# Altium footprint library WB_DIODE_TRANS.PcbLib: 5 footprints
Each footprint in its own frame and in the unit in brackets; x right, y up, seen from the top. Pads: shape width x height; smd on the part's side, far side on the other; paste and mask are expansions set on the pad; w line width, h text height; cw(c..) or ccw(c..) is an arc to the next point about the centre after c.
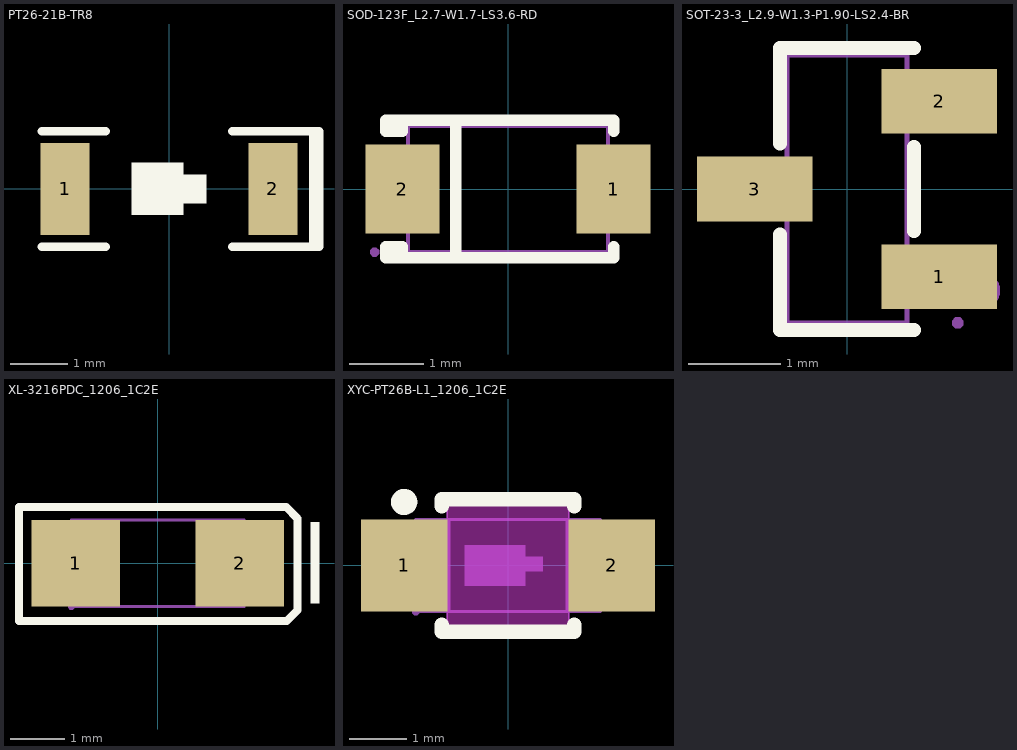
[diagram p0: the footprints below, top view; thin cyan lines are the x and y axes]

## PT26-21B-TR8 [mm]
pads (2):
  rect 0.85x1.6 smd: 1(-1.8,0) 2(1.8,0)
Top Overlay:
  region: -0.65,0.45 0.25,0.45 0.25,0.25 0.65,0.25 0.65,-0.25 0.25,-0.25 0.25,-0.45 -0.65,-0.45
  lines w0.152: -2.2,-1.002 -1.1,-1.002 ; -2.2,1 -1.1,1 ; 1.1,-1.002 2.2,-1.002 2.201,-1 2.5,-1 ; 1.1,1 2.2,1 2.5,1 ; 2.5,-1 2.5,1 ; 2.5,-1 2.6,-1 2.6,1 2.5,1
Mechanical 6:
  region: 2.05,0.25 1.95,0.35 1.75,0.35 1.65,0.35 1.55,0.25 1.55,-0.25 1.65,-0.35 1.95,-0.35 2.05,-0.25 2.05,-0.15 1.95,-0.15 1.95,-0.25 1.65,-0.25 1.65,0.25 1.95,0.25 1.95,0.15 2.05,0.15
  region: -1.6,-0.25 -1.6,-0.35 -2,-0.35 -2,0.35 -1.6,0.35 -1.6,0.25 -1.9,0.25 -1.9,0.05 -1.6,0.05 -1.6,-0.05 -1.9,-0.05 -1.9,-0.25

## SOD-123F_L2.7-W1.7-LS3.6-RD [mm]
pads (2):
  rect 1.001x1.199 smd mask+0.051: 1(1.425,0) 2(-1.425,0)
Top Overlay:
  lines w0.152: -1.542,-0.927 -1.542,-0.78 ; -1.542,0.78 -1.542,0.927 ; -0.706,-0.927 -0.706,0.927 ; 1.427,-0.78 1.427,-0.927 -1.425,-0.927 ; 1.427,0.78 1.427,0.927 -1.425,0.927 ; -1.425,-0.927 -1.651,-0.927 -1.651,-0.78 -1.425,-0.78 -1.425,-0.927 ; -1.425,0.927 -1.651,0.927 -1.651,0.78 -1.425,0.78 -1.425,0.927
Mechanical 6:
  region: 1.651,0.508 1.651,-0.508 1.397,-0.508 1.397,0.508
  region: 1.905,0.127 1.905,-0.076 1.09,-0.076 1.09,0.127
  region: -1.778,0.127 -1.778,-0.076 -0.963,-0.076 -0.963,0.127
Mechanical 15:
  region: -1.74,-0.851 -1.74,-0.826 -1.776,-0.79 -1.826,-0.79 -1.862,-0.826 -1.862,-0.851 -1.862,-0.876 -1.826,-0.912 -1.776,-0.912 -1.74,-0.876 -1.74,-0.851
  region: -1.801,0.45 -1.049,0.45 -1.049,-0.45 -1.801,-0.45
  region: 1.049,0.45 1.801,0.45 1.801,-0.45 1.049,-0.45
  lines w0.051: -1.349,-0.851 1.351,-0.851 1.351,0.851 -1.349,0.851 -1.349,-0.851

## SOT-23-3_L2.9-W1.3-P1.90-LS2.4-BR [mm]
pads (3):
  rect 1.25x0.7 smd paste+0 mask+0.051: 1(1,-0.95) 2(1,0.95) 3(-1,0)
Top Overlay:
  lines w0.152: -0.726,-0.495 -0.726,-1.526 0.726,-1.526 ; -0.726,0.495 -0.726,1.526 0.726,1.526 ; 0.726,-0.455 0.726,0.455
Mechanical 6:
  circle w0.2: c1.46,-1.1 r0.1
Mechanical 15:
  region: -1.2,-0.215 -1.2,0.215 -0.9,0.215 -0.9,-0.215
  region: -0.91,-0.215 -0.91,0.215 -0.64,0.215 -0.64,-0.215
  region: 0.9,-1.165 0.9,-0.735 1.2,-0.735 1.2,-1.165
  region: 0.64,-1.165 0.64,-0.735 0.91,-0.735 0.91,-1.165
  region: 0.9,0.735 0.9,1.165 1.2,1.165 1.2,0.735
  region: 0.64,0.735 0.64,1.165 0.91,1.165 0.91,0.735
  region: 1.26,-1.45 1.26,-1.425 1.225,-1.39 1.175,-1.39 1.14,-1.425 1.14,-1.45 1.14,-1.475 1.175,-1.51 1.225,-1.51 1.26,-1.475 1.26,-1.45
  lines w0.051: -0.65,-1.45 0.65,-1.45 0.65,1.45 -0.65,1.45 -0.65,-1.45

## XL-3216PDC_1206_1C2E [mm]
pads (2):
  rect 1.635x1.6 smd paste-100 mask+0.051: 1(-1.517,0) 2(1.517,0)
Top Overlay:
  region: 2.834,0.761 2.834,-0.741 2.986,-0.741 2.986,0.761
  lines w0.15: 2.379,1.039 -2.569,1.039 -2.569,-1.069 2.389,-1.069 2.59,-0.871 2.59,-0.79 2.59,0.83 2.38,1.04
Top Paste:
  region: -0.7,-0.7 -0.7,-0.329 -0.8,-0.229 -1.156,-0.229 -1.256,-0.129 -1.256,0.129 -1.156,0.229 -0.8,0.229 -0.7,0.329 -0.7,0.7 -0.8,0.8 -2.235,0.8 -2.335,0.7 -2.335,-0.7 -2.235,-0.8 -0.8,-0.8
  region: 0.7,0.7 0.7,0.329 0.8,0.229 1.156,0.229 1.256,0.129 1.256,-0.129 1.156,-0.229 0.8,-0.229 0.7,-0.329 0.7,-0.7 0.8,-0.8 2.235,-0.8 2.335,-0.7 2.335,0.7 2.235,0.8 0.8,0.8
Mechanical 6:
  region: -1.207,0.318 -1.334,0.445 -1.715,0.445 -1.842,0.318 -1.842,-0.318 -1.715,-0.445 -1.334,-0.445 -1.207,-0.318 -1.207,-0.191 -1.334,-0.191 -1.334,-0.318 -1.715,-0.318 -1.715,0.191 -1.715,0.318 -1.334,0.318 -1.334,0.191 -1.207,0.191
  region: 1.778,0.445 1.27,0.445 1.27,-0.445 1.778,-0.445 1.778,-0.318 1.397,-0.318 1.397,-0.064 1.778,-0.064 1.778,0.064 1.397,0.064 1.397,0.318 1.778,0.318
  region: -1.6,0.8 -0.965,0.8 -0.965,0.673 -1.6,0.673
  region: -1.6,-0.673 -0.965,-0.673 -0.965,-0.8 -1.6,-0.8
Mechanical 15:
  region: -1.54,-0.8 -1.54,-0.825 -1.575,-0.86 -1.625,-0.86 -1.66,-0.825 -1.66,-0.8 -1.66,-0.775 -1.625,-0.74 -1.575,-0.74 -1.54,-0.775 -1.54,-0.8
  region: 1.1,-0.7 1.1,0.7 1.6,0.7 1.6,-0.7
  region: -1.1,0.7 -1.1,-0.7 -1.6,-0.7 -1.6,0.7
  lines w0.051: -1.6,-0.8 1.6,-0.8 1.6,0.8 -1.6,0.8 -1.6,-0.8

## XYC-PT26B-L1_1206_1C2E [mm]
pads (2):
  rect 1.5x1.6 smd paste+0 mask+0.05: 1(-1.8,0) 2(1.8,0)
Top Overlay:
  circle w0.254: c-1.8,1.1 r0.1
  lines w0.254: -1.15,-1.031 -1.15,-1.15 1.15,-1.15 1.15,-1.031 ; -1.15,1.031 -1.15,1.15 1.15,1.15 1.15,1.031
Keep-Out Layer:
  board cut-out: -1.05,1.05 -1.05,-1.05 1.05,-1.05 1.05,1.05
Keep-Out Layer:
  region: -1.05,1.05 -1.05,-1.05 1.05,-1.05 1.05,1.05
  lines w0.025: -1.05,-1.05 1.05,-1.05 1.05,1.05 -1.05,1.05 -1.05,-1.05
Mechanical 1:
  lines w0.025: -1.05,-1.05 1.05,-1.05 1.05,1.05 -1.05,1.05 -1.05,-1.05
Mechanical 6:
  region: 1.575,0.05 1.575,-0.05 2.025,-0.05 2.025,0.05
  region: -2.025,0.05 -2.025,-0.05 -1.575,-0.05 -1.575,0.05
  region: -1.85,-0.225 -1.75,-0.225 -1.75,0.225 -1.85,0.225
  region: -0.75,0.35 -0.75,-0.35 0.3,-0.35 0.3,-0.1 0.6,-0.1 0.6,0.15 0.3,0.15 0.3,0.35
Mechanical 15:
  region: -1,-0.8 -1.6,-0.8 -1.6,0.8 -1,0.8
  region: 1,0.8 1.6,0.8 1.6,-0.8 1,-0.8
  region: -1.54,-0.8 -1.54,-0.825 -1.575,-0.86 -1.625,-0.86 -1.66,-0.825 -1.66,-0.8 -1.66,-0.775 -1.625,-0.74 -1.575,-0.74 -1.54,-0.775 -1.54,-0.8
  lines w0.051: -1.6,-0.8 1.6,-0.8 1.6,0.8 -1.6,0.8 -1.6,-0.8